# Altium footprint library linear.PCBLIB: 119 footprints (part 1 of 8)
Each footprint in its own frame and in the unit in brackets; x right, y up, seen from the top. Pads: shape width x height; smd on the part's side, far side on the other; paste and mask are expansions set on the pad; w line width, h text height; cw(c..) or ccw(c..) is an arc to the next point about the centre after c.
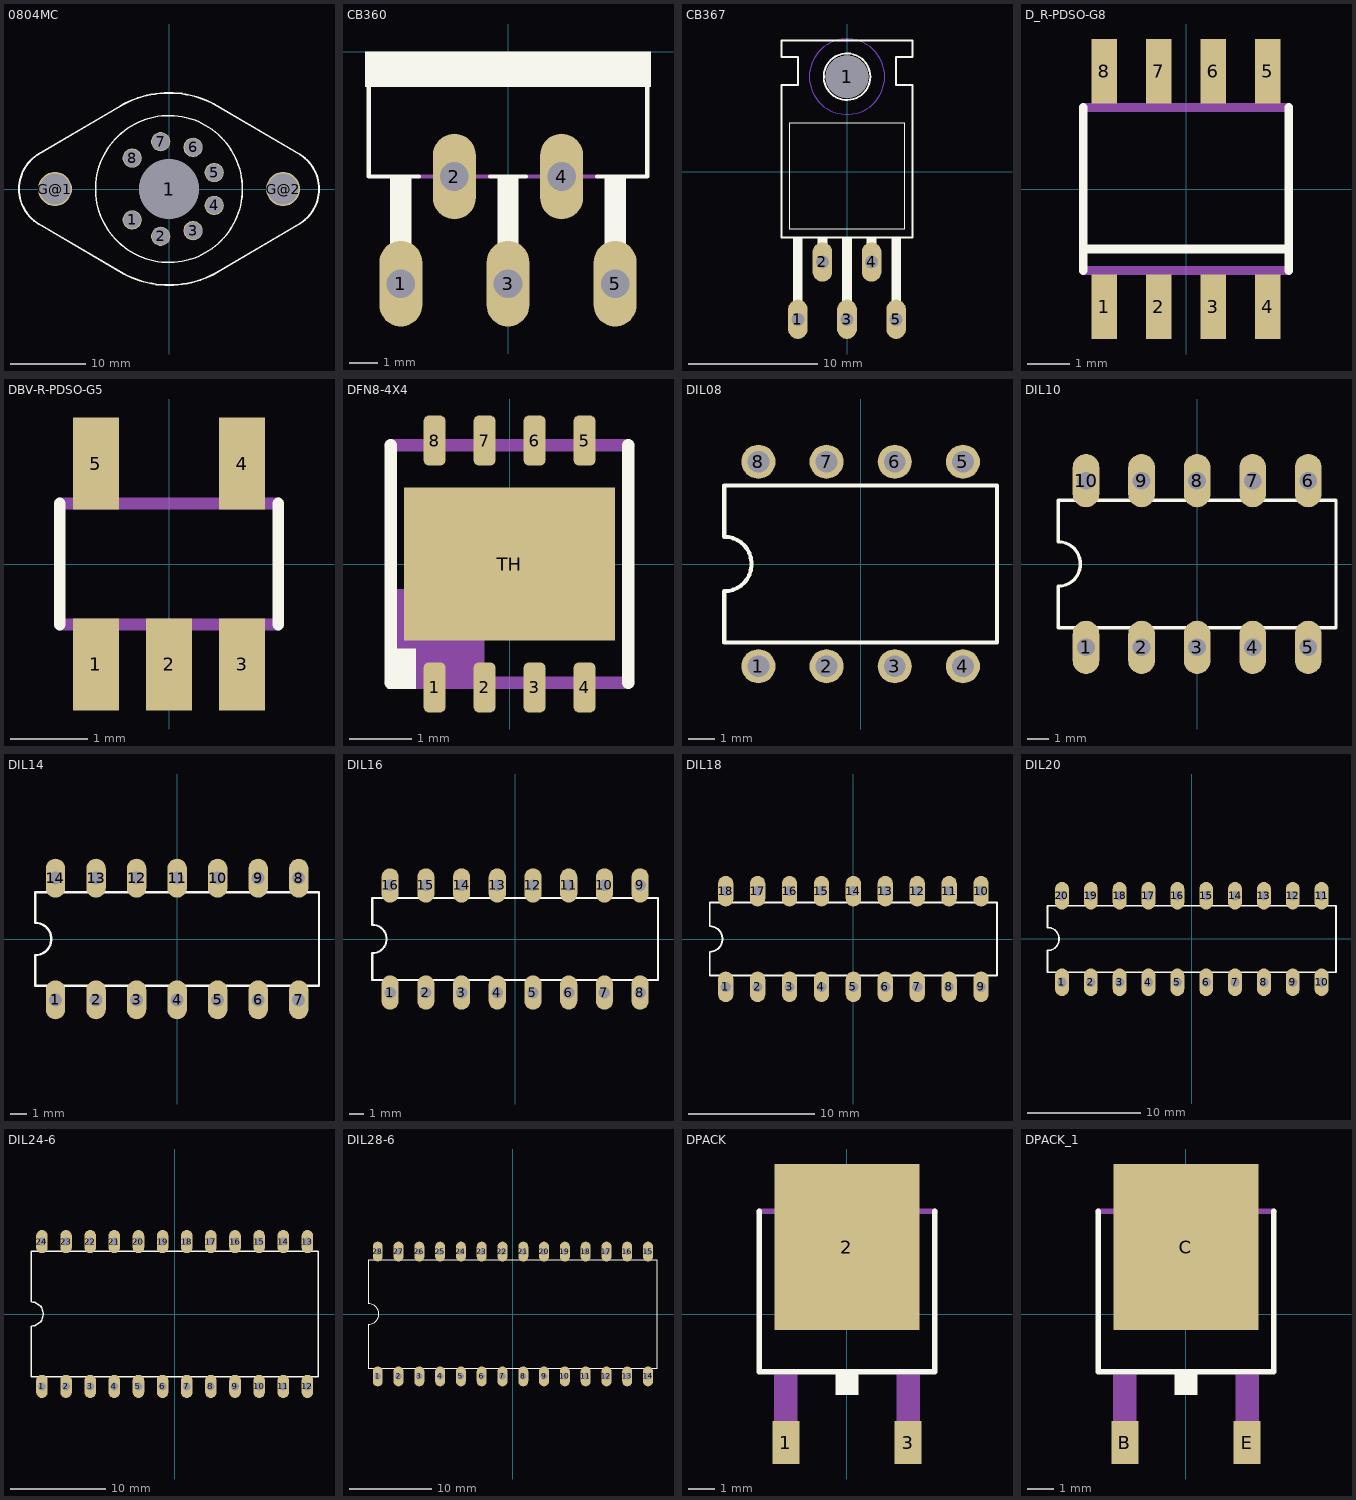
[diagram p0: the footprints below, top view; thin cyan lines are the x and y axes]

## 0804MC [mil]
pads (11):
  round 100 hole 90.55: 1(-191.34,-160.63) 2(-43.31,-246.06) 3(125.2,-216.54) 4(235.04,-85.43) 5(235.04,85.43) 6(125.2,216.54) 7(-43.31,246.06) 8(-191.34,160.63)
  round 310 hole 310: 1(0,0)
  round 177.17 hole 160: G@1(-593.31,0) G@2(593.31,0)
Top Overlay:
  circle w8: c0,0 r381.89
  lines w10: -680,180 -250,433 ; -679,-181 -234,-442 ; -675.41,-183.35 cw(c-567,0) -780,0 cw(c-567,0) -672.94,184.78 ; -250.86,432.52 cw(c-0.01,0) 0,500 cw(c0.01,-0.01) 235.3,441.18 ; -235.3,-441.18 ccw(c-0.01,0.01) 0,-500 ccw(c0.01,0) 250.86,-432.52 ; 235,441 684,178 ; 251,-433 684,-178 ; 682.54,-178.94 ccw(c567,0) 780,0 ccw(c567,0) 682.54,178.94

## CB360 [mil]
pads (5):
  oval 60x120 hole 40: 1(-150,-325) 2(-75,-175) 3(0,-325) 4(75,-175) 5(150,-325)
Top Overlay:
  rectangle: -200,-50 200,0
  rectangle: -165,-275 -135,-175
  rectangle: -15,-275 15,-175
  rectangle: 135,-275 165,-175
  lines w6: -195,-50 -195,-175 -125,-175 ; -25,-175 25,-175 ; 125,-175 195,-175 195,-50
Mechanical 16:
  rectangle: -165,-330 -135,-275
  rectangle: -15,-330 15,-275
  rectangle: 135,-330 165,-275
  lines w6: -125,-175 -25,-175 ; 25,-175 125,-175

## CB367 [mil]
pads (6):
  oval 60x120 hole 40: 1(-150,-450) 2(-75,-275) 3(0,-450) 4(75,-275) 5(150,-450)
  round 130 hole 130: 1(0,290)
Bottom Layer keep-out:
  circle w0: c0,290 r115
Top Overlay:
  circle w6: c0,290 r71
  rectangle: -165,-400 -135,-200
  rectangle: -90,-225 -60,-200
  rectangle: -15,-400 15,-200
  rectangle: 135,-400 165,-200
  rectangle: 60,-225 90,-200
  lines w2: -175,-175 175,-175 175,150 -175,150 -175,-175
  lines w6: -200,-200 200,-200 200,265 150,265 150,350 200,350 200,400 -200,400 -200,350 -150,350 -150,265 -200,265 -200,-200
Mechanical 16:
  rectangle: -165,-445 -135,-400
  rectangle: -90,-270 -60,-225
  rectangle: -15,-445 15,-400
  rectangle: 60,-270 90,-225
  rectangle: 135,-445 165,-400
Via Holes:
  circle w0: c0,290 r115

## D_R-PDSO-G8 [mil]
pads (8):
  rect 23.62x59.06 smd: 1(-75,-108.27) 2(-25,-108.27) 3(25,-108.27) 4(75,-108.27) 5(75,108.27) 6(25,108.27) 7(-25,108.27) 8(-75,108.27)
Top Overlay:
  lines w8: -94.49,-74.8 -94.49,-55.12 ; -94.49,74.8 -94.49,-55.12 ; 94.49,-74.8 94.49,-55.12 ; 94.49,74.8 94.49,-55.12 ; -94.49,-55.12 94.49,-55.12
Mechanical 16:
  rectangle: -84.65,-125.98 -65.35,-78.74
  rectangle: -34.65,-125.98 -15.35,-78.74
  rectangle: 15.35,-125.98 34.65,-78.74
  rectangle: 65.35,-125.98 84.65,-78.74
  rectangle: 65.35,78.74 84.65,125.98
  rectangle: 15.35,78.74 34.65,125.98
  rectangle: -34.65,78.74 -15.35,125.98
  rectangle: -84.65,78.74 -65.35,125.98
  lines w8: -94.49,-74.8 94.49,-74.8 ; -94.49,74.8 94.49,74.8

## DBV-R-PDSO-G5 [mil]
pads (5):
  rect 23.62x47.24 smd: 1(-37.4,-51.42) 2(0,-51.42) 3(37.4,-51.42) 4(37.4,51.42) 5(-37.4,51.42)
Top Overlay:
  lines w6: -55.87,-30.98 -55.87,31.02 ; 55.87,-30.98 55.87,31.02
Top Solder:
  rectangle: -51.18,26.57 -23.62,76.77
  rectangle: 23.62,26.57 51.18,76.77
  region: -23.62,-26.57 -51.18,-26.57 -51.18,-76.77 -23.62,-76.77
  region: 13.78,-26.57 -13.78,-26.57 -13.78,-76.77 13.78,-76.77
  region: 51.18,-26.57 23.62,-26.57 23.62,-76.77 51.18,-76.77
Mechanical 16:
  rectangle: -46.75,28.06 -28.05,59.06
  rectangle: 28.05,28.06 46.75,59.06
  rectangle: -46.75,-59.06 -28.05,-28.05
  rectangle: -9.35,-59.06 9.35,-28.05
  rectangle: 28.05,-59.06 46.75,-28.05
  lines w6: -55.87,-30.98 55.87,-30.98 ; -55.87,31.02 55.87,31.02

## DFN8-4X4 [mil]
pads (9):
  rrect50% 13.78x31.5 smd: 1(-47.24,-77.76) 2(-15.75,-77.76) 3(15.75,-77.76) 4(47.24,-77.76) 5(47.24,77.76) 6(15.75,77.76) 7(-15.75,77.76) 8(-47.24,77.76)
  rect 133.07x96.46 smd: TH(0,0)
Top Overlay:
  rectangle: -76.77,-78.74 -59.06,-53.15
  lines w8: -74.8,-74.8 -74.8,74.8 ; 74.8,-74.8 74.8,74.8
Top Paste:
  rectangle: -53.15,-91.54 -41.34,-63.98
  rectangle: -21.65,-91.54 -9.84,-63.98
  rectangle: 9.84,-91.54 21.65,-63.98
  rectangle: 41.34,-91.54 53.15,-63.98
  region: 53.15,91.54 41.34,91.54 41.34,63.98 53.15,63.98
  region: 21.65,91.54 9.84,91.54 9.84,63.98 21.65,63.98
  region: -9.84,91.54 -21.65,91.54 -21.65,63.98 -9.84,63.98
  region: -41.34,91.54 -53.15,91.54 -53.15,63.98 -41.34,63.98
  rectangle: -64.96,5.91 -5.91,45.28
  rectangle: 5.91,5.91 64.96,45.28
  region: -5.91,-5.91 -64.96,-5.91 -64.96,-45.28 -5.91,-45.28
  region: 64.96,-5.91 5.91,-5.91 5.91,-45.28 64.96,-45.28
Top Solder:
  rectangle: -55.12,-94.49 -39.37,-61.02
  rectangle: -23.62,-94.49 -7.87,-61.02
  rectangle: 7.87,-94.49 23.62,-61.02
  rectangle: 39.37,-94.49 55.12,-61.02
  region: 55.12,94.49 39.37,94.49 39.37,61.02 55.12,61.02
  region: 23.62,94.49 7.87,94.49 7.87,61.02 23.62,61.02
  region: -7.87,94.49 -23.62,94.49 -23.62,61.02 -7.87,61.02
  region: -39.37,94.49 -55.12,94.49 -55.12,61.02 -39.37,61.02
  rectangle: -67.91,-50.2 67.91,50.2
Mechanical 16:
  rectangle: -70.87,-70.87 -15.75,-15.75
  lines w8: -74.8,-74.8 74.8,-74.8 ; -74.8,74.8 74.8,74.8

## DIL08 [mil]
pads (8):
  round 50 hole 32: 1(-150,-150) 2(-50,-150) 3(50,-150) 4(150,-150) 5(150,150) 6(50,150) 7(-50,150) 8(-150,150)
Top Overlay:
  lines w6: -200,-115 -200,-40 ccw(c-200,0) -200,40 -200,115 200,115 200,-115 -200,-115
3D body: height 188.98, standoff -129.92, extent -197.91,-154.91 187.92,154.93

## DIL10 [mil]
pads (10):
  oval 48x96 hole 32: 1(-200,-150) 2(-100,-150) 3(0,-150) 4(100,-150) 5(200,-150) 6(200,150) 7(100,150) 8(0,150) 9(-100,150) 10(-200,150)
Top Overlay:
  lines w6: -250,-115 250,-115 250,115 -250,115 -250,40 cw(c-250,0) -250,-40 -250,-115

## DIL14 [mil]
pads (14):
  oval 48x96 hole 32: 1(-300,-150) 2(-200,-150) 3(-100,-150) 4(0,-150) 5(100,-150) 6(200,-150) 7(300,-150) 8(300,150) 9(200,150) 10(100,150) 11(0,150) 12(-100,150) 13(-200,150) 14(-300,150)
Top Overlay:
  lines w6: -350,-115 350,-115 350,115 -350,115 -350,40 cw(c-350,0) -350,-40 -350,-115

## DIL16 [mil]
pads (16):
  oval 48x96 hole 32: 1(-350,-150) 2(-250,-150) 3(-150,-150) 4(-50,-150) 5(50,-150) 6(150,-150) 7(250,-150) 8(350,-150) 9(350,150) 10(250,150) 11(150,150) 12(50,150) 13(-50,150) 14(-150,150) 15(-250,150) 16(-350,150)
Top Overlay:
  lines w6: -400,-115 400,-115 400,115 -400,115 -400,40 cw(c-400,0) -400,-40 -400,-115

## DIL18 [mil]
pads (18):
  oval 48x96 hole 32: 1(-400,-150) 2(-300,-150) 3(-200,-150) 4(-100,-150) 5(0,-150) 6(100,-150) 7(200,-150) 8(300,-150) 9(400,-150) 10(400,150) 11(300,150) 12(200,150) 13(100,150) 14(0,150) 15(-100,150) 16(-200,150) 17(-300,150) 18(-400,150)
Top Overlay:
  lines w6: -450,-115 450,-115 450,115 -450,115 -450,40 cw(c-450,0) -450,-40 -450,-115

## DIL20 [mil]
pads (20):
  oval 48x96 hole 32: 1(-450,-150) 2(-350,-150) 3(-250,-150) 4(-150,-150) 5(-50,-150) 6(50,-150) 7(150,-150) 8(250,-150) 9(350,-150) 10(450,-150) 11(450,150) 12(350,150) 13(250,150) 14(150,150) 15(50,150) 16(-50,150) 17(-150,150) 18(-250,150) 19(-350,150) 20(-450,150)
Top Overlay:
  lines w6: -500,-115 500,-115 500,115 -500,115 -500,40 cw(c-500,0) -500,-40 -500,-115

## DIL24-6 [mil]
pads (24):
  oval 48x96 hole 32: 1(-550,-300) 2(-450,-300) 3(-350,-300) 4(-250,-300) 5(-150,-300) 6(-50,-300) 7(50,-300) 8(150,-300) 9(250,-300) 10(350,-300) 11(450,-300) 12(550,-300) 13(550,300) 14(450,300) 15(350,300) 16(250,300) 17(150,300) 18(50,300) 19(-50,300) 20(-150,300) 21(-250,300) 22(-350,300) 23(-450,300) 24(-550,300)
Top Overlay:
  lines w6: -595,-260 -595,-50 ccw(c-595,0) -595,50 -595,260 595,260 595,-260 -595,-260

## DIL28-6 [mil]
pads (28):
  oval 48x96 hole 32: 1(-650,-300) 2(-550,-300) 3(-450,-300) 4(-350,-300) 5(-250,-300) 6(-150,-300) 7(-50,-300) 8(50,-300) 9(150,-300) 10(250,-300) 11(350,-300) 12(450,-300) 13(550,-300) 14(650,-300) 15(650,300) 16(550,300) 17(450,300) 18(350,300) 19(250,300) 20(150,300) 21(50,300) 22(-50,300) 23(-150,300) 24(-250,300) 25(-350,300) 26(-450,300) 27(-550,300) 28(-650,300)
Top Overlay:
  lines w6: -695,-260 -695,-50 ccw(c-695,0) -695,50 -695,260 695,260 695,-260 -695,-260

## DPACK [mm]
pads (3):
  rect 1x1.6 smd: 1(-2.28,-4.8) 3(2.28,-4.8)
  rect 5.4x6.2 smd: 2(0,2.5)
Top Overlay:
  rectangle: -0.432,-3.023 0.432,-2.261
  lines w0.203: -3.277,3.835 -3.277,-2.159 3.277,-2.159 3.277,3.835
Mechanical 16:
  rectangle: -2.718,-5.156 -1.854,-2.261
  rectangle: 1.854,-5.156 2.718,-2.261
  region: 0,0 0.254,0 0.254,0.254 0,0.254
  lines w0.203: -3.277,3.835 3.277,3.835 ; -2.565,3.937 -2.565,4.648 -2.108,5.105 2.108,5.105 2.565,4.648 2.565,3.937 -2.565,3.937

## DPACK_1 [mm]
pads (3):
  rect 1x1.6 smd: B(-2.28,-4.8) E(2.28,-4.8)
  rect 5.4x6.2 smd: C(0,2.5)
Top Overlay:
  rectangle: -0.432,-3.023 0.432,-2.261
  lines w0.203: -3.277,3.835 -3.277,-2.159 3.277,-2.159 3.277,3.835
Mechanical 16:
  rectangle: -2.718,-5.156 -1.854,-2.261
  rectangle: 1.854,-5.156 2.718,-2.261
  region: 0,0 0.254,0 0.254,0.254 0,0.254
  lines w0.203: -3.277,3.835 3.277,3.835 ; -2.565,3.937 -2.565,4.648 -2.108,5.105 2.108,5.105 2.565,4.648 2.565,3.937 -2.565,3.937